# EAGLE library part WT41 (library sf-bluegiga)
Bluegiga WT41 long-range Bluetooth module - Bluetooth 2.1 + EDR (+20 dBm, 1000m). WT41-A variant has an on-module ceramic chip antenna, WT41-E variant has a U.Fl connector. WT41-A variant should be mounted over a solid ground plane. Antenna edge of the module should be flush up agains the edge of the PCB. See datasheet for variant layout details. The WT41 is a fully integrated Bluetooth 2.1 + EDR, class 1 module combining antenna, Bluetooth radio, and an on-board iWRAP Bluetooth stack. The WT41 provides a superior 110dB link budget and more than 1000-meter line-of-sight connectivity for Bluetooth applications where extreme radio performance or reliability is required. It also constitutes an ideal solution for developers that want to quickly integrate extremely high performing Bluetooth wireless technology into their design without investing several months in Bluetooth radio and stack development. The WT41 uses Bluegiga's iWRAP Bluetooth stack, which is an embedded Bluetooth stack implementing 13 different Bluetooth profiles and Apple iAP connectivity. By using WT41 combined with iWRAP Bluetooth stack and Bluegiga's excellent technical support, designers ensure quick time-to-market, and low development costs and risks. http://www.bluegiga.com/en-US/products/bluetooth-classic-modules/wt41-long-range-bluetooth--module https://github.com/jrowberg/sf-oshw Last updated 2014-01-04 by Jeff Rowberg <jeff@rowberg.net>
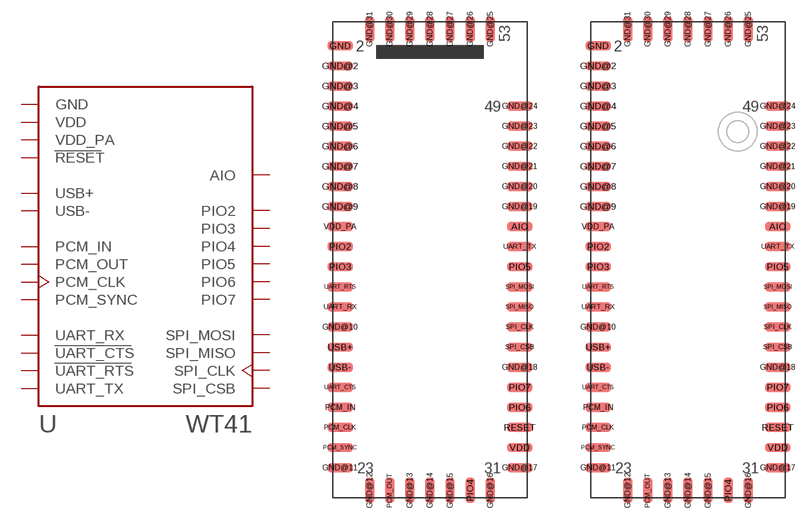
[diagram p7: symbol with the pads of WT41-A; footprints WT41-A, WT41-E]

Designator prefix U

## WT41-A (ANTENNA: On-module ceramic chip antenna)  [WT41-A]
AIO  AIO
GND  GND  pwr
GND@2  GND  pwr
GND@3  GND  pwr
GND@4  GND  pwr
GND@5  GND  pwr
GND@6  GND  pwr
GND@7  GND  pwr
GND@8  GND  pwr
GND@9  GND  pwr
GND@10  GND  pwr
GND@11  GND  pwr
GND@12  GND  pwr
GND@13  GND  pwr
GND@14  GND  pwr
GND@15  GND  pwr
GND@16  GND  pwr
GND@17  GND  pwr
GND@18  GND  pwr
GND@19  GND  pwr
GND@20  GND  pwr
GND@21  GND  pwr
GND@22  GND  pwr
GND@23  GND  pwr
GND@24  GND  pwr
GND@25  GND  pwr
GND@26  GND  pwr
GND@27  GND  pwr
GND@28  GND  pwr
GND@29  GND  pwr
GND@30  GND  pwr
GND@31  GND  pwr
PCM_CLK  PCM_CLK
PCM_IN  PCM_IN  in
PCM_OUT  PCM_OUT  out
PCM_SYNC  PCM_SYNC
PIO2  PIO2
PIO3  PIO3
PIO4  PIO4
PIO5  PIO5
PIO6  PIO6
PIO7  PIO7
RESET  RESET  in
SPI_CLK  SPI_CLK  in
SPI_CSB  SPI_CSB  in
SPI_MISO  SPI_MISO  out
SPI_MOSI  SPI_MOSI  in
UART_CTS  UART_CTS  in
UART_RTS  UART_RTS  out
UART_RX  UART_RX  in
UART_TX  UART_TX  out
USB+  USB+
USB-  USB-
VDD  VDD  pwr
VDD_PA  VDD_PA  pwr

## WT41-E (ANTENNA: U.Fl connector)  [WT41-E]
Pads as for WT41-A

## Footprint WT41-A (pad centres in mm)
Bluegiga WT41 long-range Bluetooth module - Bluetooth 2.1 + EDR (+20 dBm, 1000m). WT41-A variant has an on-module ceramic chip antenna. WT41-A variant should be mounted over a solid ground plane. Antenna edge of the module should be flush up agains the edge of the PCB. See datasheet for variant layout details. The WT41 is a fully integrated Bluetooth 2.1 + EDR, class 1 module combining antenna, Bluetooth radio, and an on-board iWRAP Bluetooth stack. The WT41 provides a superior 110dB link budget and more than 1000-meter line-of-sight connectivity for Bluetooth applications where extreme radio performance or reliability is required. It also constitutes an ideal solution for developers that want to quickly integrate extremely high performing Bluetooth wireless technology into their design without investing several months in Bluetooth radio and stack development. The WT41 uses Bluegiga's iWRAP Bluetooth stack, which is an embedded Bluetooth stack implementing 13 different Bluetooth profiles and Apple iAP connectivity. By using WT41 combined with iWRAP Bluetooth stack and Bluegiga's excellent technical support, designers ensure quick time-to-market, and low development costs and risks. http://www.bluegiga.com/en-US/products/bluetooth-classic-modules/wt41-long-range-bluetooth--module https://github.com/jrowberg/sf-oshw Last updated 2014-01-04 by Jeff Rowberg <jeff@rowberg.net>
smd 1.9 x 0.7: AIO 6.7,2.45; GND -6.7,15.95; GND@2 -6.7,14.45; GND@3 -6.7,12.95; GND@4 -6.7,11.45; GND@5 -6.7,9.95; GND@6 -6.7,8.45; GND@7 -6.7,6.95; GND@8 -6.7,5.45; GND@9 -6.7,3.95; GND@10 -6.7,-5.05; GND@11 -6.7,-15.55; GND@17 6.7,-15.55; GND@18 6.7,-8.05; GND@19 6.7,3.95; GND@20 6.7,5.45; GND@21 6.7,6.95; GND@22 6.7,8.45; GND@23 6.7,9.95; GND@24 6.7,11.45; PCM_CLK -6.7,-12.55; PCM_IN -6.7,-11.05; PCM_SYNC -6.7,-14.05; PIO2 -6.7,0.95; PIO3 -6.7,-0.55; PIO5 6.7,-0.55; PIO6 6.7,-11.05; PIO7 6.7,-9.55; RESET 6.7,-12.55; SPI_CLK 6.7,-5.05; SPI_CSB 6.7,-6.55; SPI_MISO 6.7,-3.55; SPI_MOSI 6.7,-2.05; UART_CTS -6.7,-9.55; UART_RTS -6.7,-2.05; UART_RX -6.7,-3.55; UART_TX 6.7,0.95; USB+ -6.7,-6.55; USB- -6.7,-8.05; VDD 6.7,-14.05; VDD_PA -6.7,2.45
smd 0.7 x 1.9: GND@12 -4.5,-17.25; GND@13 -1.5,-17.25; GND@14 0,-17.25; GND@15 1.5,-17.25; GND@16 4.5,-17.25; GND@25 4.5,17.2; GND@26 3,17.2; GND@27 1.5,17.2; GND@28 0,17.2; GND@29 -1.5,17.2; GND@30 -3,17.2; GND@31 -4.5,17.2; PCM_OUT -3,-17.25; PIO4 3,-17.25

## Footprint WT41-E (pad centres in mm)
Bluegiga WT41 long-range Bluetooth module - Bluetooth 2.1 + EDR (+20 dBm, 1000m). WT41-E variant has a U.Fl connector for RF output. See datasheet for variant layout details. The WT41 is a fully integrated Bluetooth 2.1 + EDR, class 1 module combining antenna, Bluetooth radio, and an on-board iWRAP Bluetooth stack. The WT41 provides a superior 110dB link budget and more than 1000-meter line-of-sight connectivity for Bluetooth applications where extreme radio performance or reliability is required. It also constitutes an ideal solution for developers that want to quickly integrate extremely high performing Bluetooth wireless technology into their design without investing several months in Bluetooth radio and stack development. The WT41 uses Bluegiga's iWRAP Bluetooth stack, which is an embedded Bluetooth stack implementing 13 different Bluetooth profiles and Apple iAP connectivity. By using WT41 combined with iWRAP Bluetooth stack and Bluegiga's excellent technical support, designers ensure quick time-to-market, and low development costs and risks. http://www.bluegiga.com/en-US/products/bluetooth-classic-modules/wt41-long-range-bluetooth--module https://github.com/jrowberg/sf-oshw Last updated 2014-01-04 by Jeff Rowberg <jeff@rowberg.net>
smd 1.9 x 0.7: AIO 6.7,2.45; GND -6.7,15.95; GND@2 -6.7,14.45; GND@3 -6.7,12.95; GND@4 -6.7,11.45; GND@5 -6.7,9.95; GND@6 -6.7,8.45; GND@7 -6.7,6.95; GND@8 -6.7,5.45; GND@9 -6.7,3.95; GND@10 -6.7,-5.05; GND@11 -6.7,-15.55; GND@17 6.7,-15.55; GND@18 6.7,-8.05; GND@19 6.7,3.95; GND@20 6.7,5.45; GND@21 6.7,6.95; GND@22 6.7,8.45; GND@23 6.7,9.95; GND@24 6.7,11.45; PCM_CLK -6.7,-12.55; PCM_IN -6.7,-11.05; PCM_SYNC -6.7,-14.05; PIO2 -6.7,0.95; PIO3 -6.7,-0.55; PIO5 6.7,-0.55; PIO6 6.7,-11.05; PIO7 6.7,-9.55; RESET 6.7,-12.55; SPI_CLK 6.7,-5.05; SPI_CSB 6.7,-6.55; SPI_MISO 6.7,-3.55; SPI_MOSI 6.7,-2.05; UART_CTS -6.7,-9.55; UART_RTS -6.7,-2.05; UART_RX -6.7,-3.55; UART_TX 6.7,0.95; USB+ -6.7,-6.55; USB- -6.7,-8.05; VDD 6.7,-14.05; VDD_PA -6.7,2.45
smd 0.7 x 1.9: GND@12 -4.5,-17.25; GND@13 -1.5,-17.25; GND@14 0,-17.25; GND@15 1.5,-17.25; GND@16 4.5,-17.25; GND@25 4.5,17.2; GND@26 3,17.2; GND@27 1.5,17.2; GND@28 0,17.2; GND@29 -1.5,17.2; GND@30 -3,17.2; GND@31 -4.5,17.2; PCM_OUT -3,-17.25; PIO4 3,-17.25